# EAGLE library part USB3300-EZK (library usb3300)
IC, USB 2.0 ULPI PHY W/OTG, 32VQFN
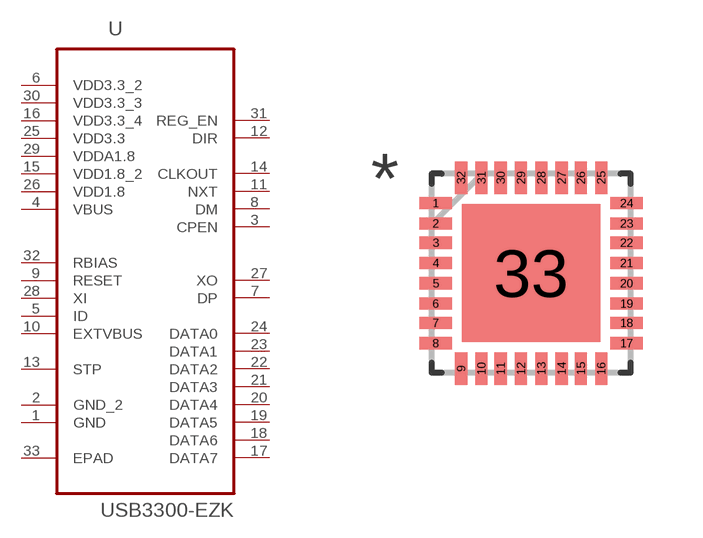
[diagram p0: symbol with the pads of QFN50P500X500X100-33N; footprint QFN50P500X500X100-33N]

Designator prefix U

## USB3300-EZK (MPN: USB3300-EZK; OC_FARNELL: 2292614; OC_NEWARK: 66W2142; PACKAGE: 32VQFN; SUPPLIER: Microchip)  [QFN50P500X500X100-33N]
1  GND  pas
2  GND_2  pas
3  CPEN  out
4  VBUS  pwr
5  ID  in
6  VDD3.3_2  pwr
7  DP
8  DM
9  RESET  in
10  EXTVBUS  in
11  NXT  out
12  DIR  out
13  STP  in
14  CLKOUT  out
15  VDD1.8_2  pwr
16  VDD3.3_4  pwr
17  DATA7
18  DATA6
19  DATA5
20  DATA4
21  DATA3
22  DATA2
23  DATA1
24  DATA0
25  VDD3.3  pwr
26  VDD1.8  pwr
27  XO  out
28  XI  in
29  VDDA1.8  pwr
30  VDD3.3_3  pwr
31  REG_EN
32  RBIAS  pas
33  EPAD  pas

## Footprint QFN50P500X500X100-33N (pad centres in mm)
smd 0.813 x 0.305: 1 -2.388,1.753; 2 -2.388,1.245; 3 -2.388,0.762; 4 -2.388,0.254; 5 -2.388,-0.254; 6 -2.388,-0.762; 7 -2.388,-1.245; 8 -2.388,-1.753; 17 2.388,-1.753; 18 2.388,-1.245; 19 2.388,-0.762; 20 2.388,-0.254; 21 2.388,0.254; 22 2.388,0.762; 23 2.388,1.245; 24 2.388,1.753
smd 0.305 x 0.813: 9 -1.753,-2.388; 10 -1.245,-2.388; 11 -0.762,-2.388; 12 -0.254,-2.388; 13 0.254,-2.388; 14 0.762,-2.388; 15 1.245,-2.388; 16 1.753,-2.388; 25 1.753,2.388; 26 1.245,2.388; 27 0.762,2.388; 28 0.254,2.388; 29 -0.254,2.388; 30 -0.762,2.388; 31 -1.245,2.388; 32 -1.753,2.388
smd 3.454 x 3.454: 33 0,0